# EAGLE library part OLED_SPI_128X64_1_13IN (library PatternAgents-ProtoPads)
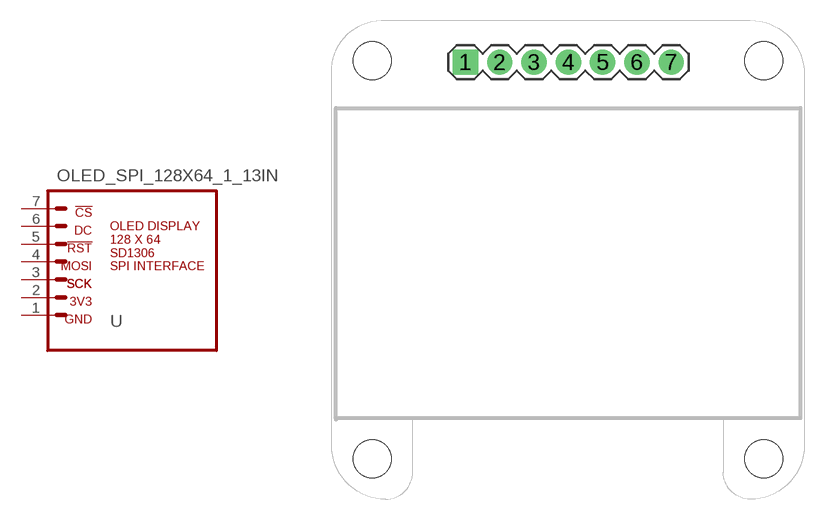
[diagram p8: symbol with the pads of OLED_128X64_1_13; footprint OLED_128X64_1_13]

Designator prefix -

## OLED_SPI_128X64_1_13IN  [OLED_128X64_1_13]
1  1  pas
2  2  pas
3  3  pas
4  4  pas
5  5  pas
6  6  pas
7  7  pas

## Footprint OLED_128X64_1_13 (pad centres in mm)
drill 1.016 pad 1.88 square: 1 9.9,32.4
drill 1.016 pad 1.88: 2 12.44,32.4; 3 14.98,32.4; 4 17.52,32.4; 5 20.06,32.4; 6 22.6,32.4; 7 25.14,32.4
hole 2.8 at 3,32.5
hole 2.8 at 32,32.5
hole 2.8 at 3,3
hole 2.8 at 32,3